# EAGLE library part TPS2511 (library WCSMain)
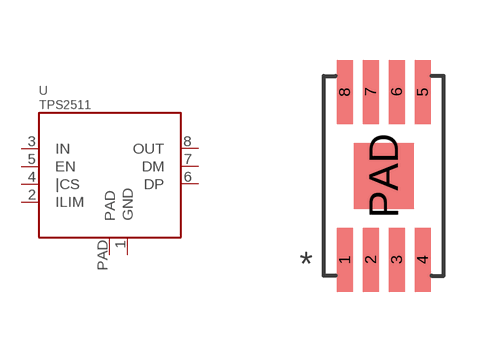
[diagram p5: symbol with the pads of TPS2511_8MSOP_PAD; footprint TPS2511_8MSOP_PAD]

Designator prefix -

## TPS2511  [TPS2511_8MSOP_PAD]
1  GND  pwr
2  ILIM  in
3  IN  pwr
4  |CS  in
5  EN  in
6  DP  out
7  DM  out
8  OUT  out
PAD  PAD  pwr

## Footprint TPS2511_8MSOP_PAD (pad centres in mm)
smd 0.4 x 1.6: 1 -0.975,-2.1; 2 -0.325,-2.1; 3 0.325,-2.1; 4 0.975,-2.1; 5 0.975,2.1; 6 0.325,2.1; 7 -0.325,2.1; 8 -0.975,2.1
smd 1.5 x 1.65: PAD 0,0